# EAGLE library part FT4222H (library FTDI)
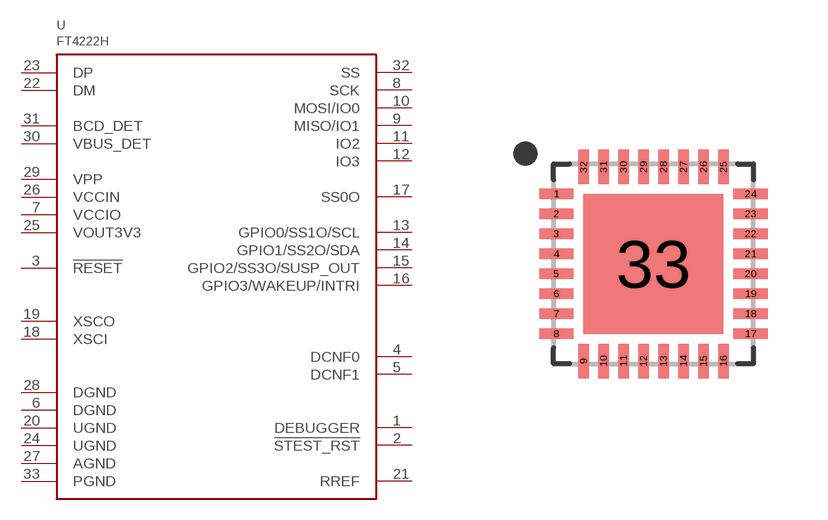
[diagram p0: symbol with the pads of QFN32; footprint QFN32]

Designator prefix U

## FT4222H  [QFN32]
1  DEBUGGER
2  !STEST_RST
3  !RESET
4  DCNF0
5  DCNF1
6  DGND
7  VCCIO
8  SCK
9  MISO/IO1
10  MOSI/IO0
11  IO2
12  IO3
13  GPIO0/SS1O/SCL
14  GPIO1/SS2O/SDA
15  GPIO2/SS3O/SUSP_OUT
16  GPIO3/WAKEUP/INTRI
17  SS0O
18  XSCI
19  XSCO
20  UGND
21  RREF
22  DM
23  DP
24  UGND
25  VOUT3V3
26  VCCIN
27  AGND
28  DGND
29  VPP
30  VBUS_DET
31  BCD_DET
32  SS
33  PGND

## Footprint QFN32 (pad centres in mm)
smd 0.86 x 0.26: 1 -2.43,1.75; 2 -2.43,1.25; 3 -2.43,0.75; 4 -2.43,0.25; 5 -2.43,-0.25; 6 -2.43,-0.75; 7 -2.43,-1.25; 8 -2.43,-1.75; 17 2.43,-1.75; 18 2.43,-1.25; 19 2.43,-0.75; 20 2.43,-0.25; 21 2.43,0.25; 22 2.43,0.75; 23 2.43,1.25; 24 2.43,1.75
smd 0.26 x 0.86: 9 -1.75,-2.43; 10 -1.25,-2.43; 11 -0.75,-2.43; 12 -0.25,-2.43; 13 0.25,-2.43; 14 0.75,-2.43; 15 1.25,-2.43; 16 1.75,-2.43; 25 1.75,2.43; 26 1.25,2.43; 27 0.75,2.43; 28 0.25,2.43; 29 -0.25,2.43; 30 -0.75,2.43; 31 -1.25,2.43; 32 -1.75,2.43
smd 3.5 x 3.5: 33 0,0